# EAGLE library part 6AE7 (library radiotubes)
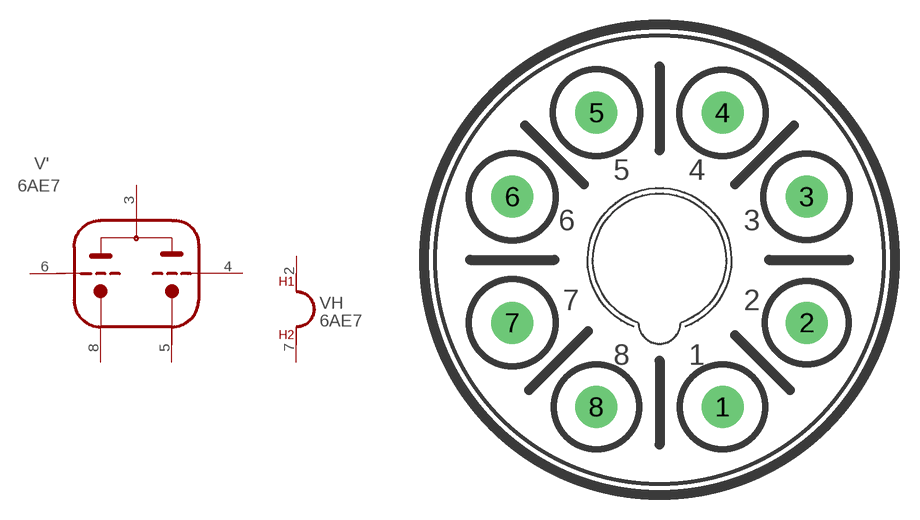
[diagram p136: symbol with the pads of OKTAL; footprint OKTAL]

Designator prefix V; gates '=6AE7 H=HEAT/1

## 6AE7  [OKTAL]
2  H:H1  pas
3  ':A  pas
4  ':GII  pas
5  ':KII  pas
6  ':GI  pas
7  H:H2  pas
8  ':KI  pas

## Footprint OKTAL (pad centres in mm)
drill 1.27 pad 2.54: 1 3.81,-8.89; 2 8.89,-3.81; 3 8.89,3.81; 4 3.81,8.89; 5 -3.81,8.89; 6 -8.89,3.81; 7 -8.89,-3.81; 8 -3.81,-8.89